# Altium schematic symbol library Connectors - Terminal Blocks - Headers Plugs and Sockets.SchLib: 18 symbols
Pins are listed as number, name and electrical type; pins without a type are passive.

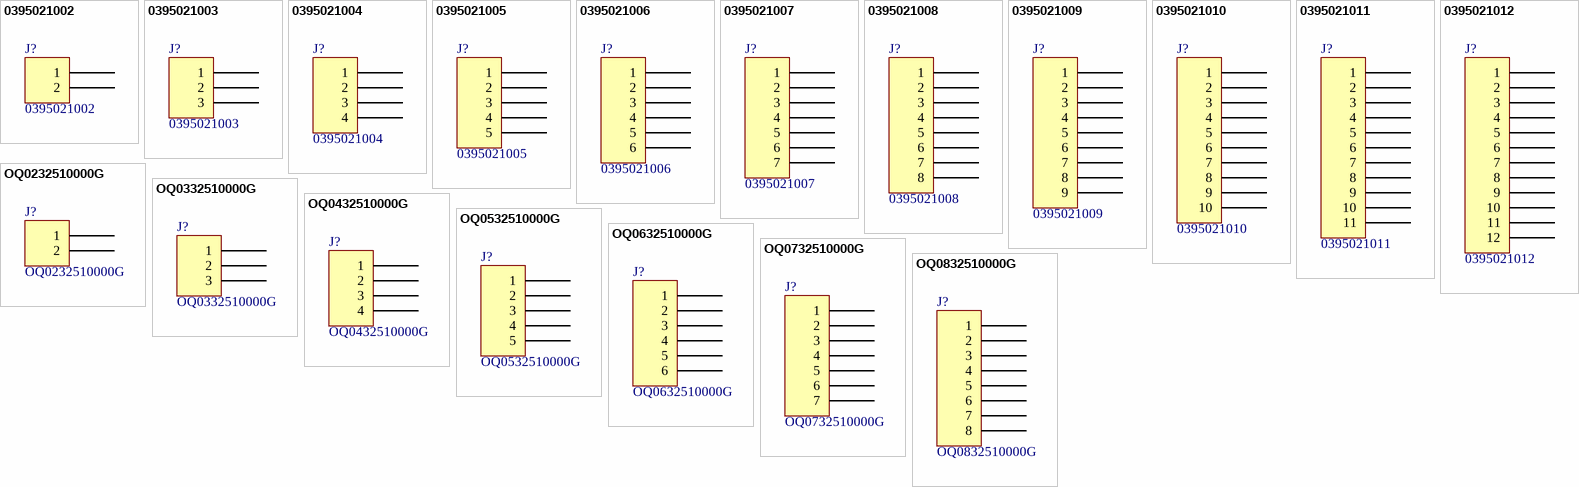
[diagram p0: symbols 0395021002 to OQ0832510000G]

## 0395021002
designator J?
TERM BLOCK HDR 2POS 90DEG 3.5MM; Manufacturer: Molex; Current - UL: 8A; Header Orientation: 90°, Right Angle; Number of Levels: 1; Number of Positions: 2; Pitch: 0.138" (3.50mm); Voltage - UL: 300V; Part Number: 0395021002; Color: Black; ComponentLink1Description: Datasheet; ComponentLink1URL: https://www.molex.com/pdm_docs/sd/395021002_sd.pdf; ComponentLink2Description: DigiKey Link; ComponentLink2URL: http://digikey.com/product-detail/en/molex/0395021002/WM7770-ND/1280621; Contact Mating Finish: Tin; LastUpdated: 6/25/2020 3:44:05 PM; Lifecycle Status: Active; Minimum Order: 1; Mounting Type: Through Hole; Operating Temperature: -40°C ~ 105°C; Packaging: Tray; Part Status: Active; Positions Per Level: 2; Price: 0.58; Series: Eurostyle ESE 39502; Supplier 1: DigiKey; Supplier Part Number 1: WM7770-ND; Termination Style: Solder; Type: Header, Male Pins, Shrouded (4 Side)
footprint MOLEX 395021002
pins: 1, 2

## 0395021003
designator J?
TERM BLOCK HDR 3POS 90DEG 3.5MM; Manufacturer: Molex; Current - UL: 8A; Header Orientation: 90°, Right Angle; Number of Levels: 1; Number of Positions: 3; Pitch: 0.138" (3.50mm); Voltage - UL: 300V; Part Number: 0395021003; Color: Black; ComponentLink1Description: Datasheet; ComponentLink1URL: https://www.molex.com/pdm_docs/sd/395021002_sd.pdf; ComponentLink2Description: DigiKey Link; ComponentLink2URL: http://digikey.com/product-detail/en/molex/0395021003/WM7771-ND/1280622; Contact Mating Finish: Tin; LastUpdated: 6/25/2020 3:44:18 PM; Lifecycle Status: Active; Minimum Order: 1; Mounting Type: Through Hole; Operating Temperature: -40°C ~ 105°C; Packaging: Tray; Part Status: Active; Positions Per Level: 3; Price: 0.78; Series: Eurostyle ESE 39502; Supplier 1: DigiKey; Supplier Part Number 1: WM7771-ND; Termination Style: Solder; Type: Header, Male Pins, Shrouded (4 Side)
footprint MOLEX 395021003
pins: 1, 2, 3

## 0395021004
designator J?
TERM BLOCK HDR 4POS 90DEG 3.5MM; Manufacturer: Molex; Current - UL: 8A; Header Orientation: 90°, Right Angle; Number of Levels: 1; Number of Positions: 4; Pitch: 0.138" (3.50mm); Voltage - UL: 300V; Part Number: 0395021004; Color: Black; ComponentLink1Description: Datasheet; ComponentLink1URL: https://www.molex.com/pdm_docs/sd/395021002_sd.pdf; ComponentLink2Description: DigiKey Link; ComponentLink2URL: http://digikey.com/product-detail/en/molex/0395021004/WM7772-ND/1280623; Contact Mating Finish: Tin; LastUpdated: 6/25/2020 3:44:36 PM; Lifecycle Status: Active; Minimum Order: 1; Mounting Type: Through Hole; Operating Temperature: -40°C ~ 105°C; Packaging: Tray; Part Status: Active; Positions Per Level: 4; Price: 1.07; Series: Eurostyle ESE 39502; Supplier 1: DigiKey; Supplier Part Number 1: WM7772-ND; Termination Style: Solder; Type: Header, Male Pins, Shrouded (4 Side)
footprint MOLEX 395021004
pins: 1, 2, 3, 4

## 0395021005
designator J?
TERM BLOCK HDR 5POS 90DEG 3.5MM; Manufacturer: Molex; Current - UL: 8A; Header Orientation: 90°, Right Angle; Number of Levels: 1; Number of Positions: 5; Pitch: 0.138" (3.50mm); Voltage - UL: 300V; Part Number: 0395021005; Color: Black; ComponentLink1Description: Datasheet; ComponentLink1URL: https://www.molex.com/pdm_docs/sd/395021002_sd.pdf; ComponentLink2Description: DigiKey Link; ComponentLink2URL: http://digikey.com/product-detail/en/molex/0395021005/WM7773-ND/1280624; Contact Mating Finish: Tin; LastUpdated: 6/25/2020 3:45:30 PM; Lifecycle Status: Active; Minimum Order: 1; Mounting Type: Through Hole; Operating Temperature: -40°C ~ 105°C; Packaging: Bulk; Part Status: Active; Positions Per Level: 5; Price: 1.33; Series: Eurostyle ESE 39502; Supplier 1: DigiKey; Supplier Part Number 1: WM7773-ND; Termination Style: Solder; Type: Header, Male Pins, Shrouded (4 Side)
footprint MOLEX 395021005
pins: 1, 2, 3, 4, 5

## 0395021006
designator J?
TERM BLOCK HDR 6POS 90DEG 3.5MM; Manufacturer: Molex; Current - UL: 8A; Header Orientation: 90°, Right Angle; Number of Levels: 1; Number of Positions: 6; Pitch: 0.138" (3.50mm); Voltage - UL: 300V; Part Number: 0395021006; Color: Black; ComponentLink1Description: Datasheet; ComponentLink1URL: https://www.molex.com/pdm_docs/sd/395021002_sd.pdf; ComponentLink2Description: DigiKey Link; ComponentLink2URL: http://digikey.com/product-detail/en/molex/0395021006/WM7774-ND/1280625; Contact Mating Finish: Tin; LastUpdated: 6/25/2020 3:45:17 PM; Lifecycle Status: Active; Minimum Order: 1; Mounting Type: Through Hole; Operating Temperature: -40°C ~ 105°C; Packaging: Bulk; Part Status: Active; Positions Per Level: 6; Price: 1.40; Series: Eurostyle ESE 39502; Supplier 1: DigiKey; Supplier Part Number 1: WM7774-ND; Termination Style: Solder; Type: Header, Male Pins, Shrouded (4 Side)
footprint MOLEX 395021006
pins: 1, 2, 3, 4, 5, 6

## 0395021007
designator J?
TERM BLOCK HDR 7POS 90DEG 3.5MM; Manufacturer: Molex; Current - UL: 8A; Header Orientation: 90°, Right Angle; Number of Levels: 1; Number of Positions: 7; Pitch: 0.138" (3.50mm); Voltage - UL: 300V; Part Number: 0395021007; Color: Black; ComponentLink1Description: Datasheet; ComponentLink1URL: https://www.molex.com/pdm_docs/sd/395021002_sd.pdf; ComponentLink2Description: DigiKey Link; ComponentLink2URL: http://digikey.com/product-detail/en/molex/0395021007/WM7775-ND/1280626; Contact Mating Finish: Tin; LastUpdated: 6/25/2020 3:45:58 PM; Lifecycle Status: Active; Minimum Order: 1; Mounting Type: Through Hole; Operating Temperature: -40°C ~ 105°C; Packaging: Bulk; Part Status: Active; Positions Per Level: 7; Price: 1.63; Series: Eurostyle ESE 39502; Supplier 1: DigiKey; Supplier Part Number 1: WM7775-ND; Termination Style: Solder; Type: Header, Male Pins, Shrouded (4 Side)
footprint MOLEX 395021007
pins: 1, 2, 3, 4, 5, 6, 7

## 0395021008
designator J?
TERM BLOCK HDR 8POS 90DEG 3.5MM; Manufacturer: Molex; Current - UL: 8A; Header Orientation: 90°, Right Angle; Number of Levels: 1; Number of Positions: 8; Pitch: 0.138" (3.50mm); Voltage - UL: 300V; Part Number: 0395021008; Color: Black; ComponentLink1Description: Datasheet; ComponentLink1URL: https://www.molex.com/pdm_docs/sd/395021002_sd.pdf; ComponentLink2Description: DigiKey Link; ComponentLink2URL: http://digikey.com/product-detail/en/molex/0395021008/WM7776-ND/1280627; Contact Mating Finish: Tin; LastUpdated: 6/25/2020 3:46:31 PM; Lifecycle Status: Active; Minimum Order: 1; Mounting Type: Through Hole; Operating Temperature: -40°C ~ 105°C; Packaging: Bulk; Part Status: Active; Positions Per Level: 8; Price: 1.97; Series: Eurostyle ESE 39502; Supplier 1: DigiKey; Supplier Part Number 1: WM7776-ND; Termination Style: Solder; Type: Header, Male Pins, Shrouded (4 Side)
footprint MOLEX 395021008
pins: 1, 2, 3, 4, 5, 6, 7, 8

## 0395021009
designator J?
TERM BLOCK HDR 9POS 90DEG 3.5MM; Manufacturer: Molex; Current - UL: 8A; Header Orientation: 90°, Right Angle; Number of Levels: 1; Number of Positions: 9; Pitch: 0.138" (3.50mm); Voltage - UL: 300V; Part Number: 0395021009; Color: Black; ComponentLink1Description: Datasheet; ComponentLink1URL: https://www.molex.com/pdm_docs/sd/395021002_sd.pdf; ComponentLink2Description: DigiKey Link; ComponentLink2URL: http://digikey.com/product-detail/en/molex/0395021009/WM7777-ND/1280628; Contact Mating Finish: Tin; LastUpdated: 6/25/2020 3:46:55 PM; Lifecycle Status: Active; Minimum Order: 1; Mounting Type: Through Hole; Operating Temperature: -40°C ~ 105°C; Packaging: Bulk; Part Status: Active; Positions Per Level: 9; Price: 2.21; Series: Eurostyle ESE 39502; Supplier 1: DigiKey; Supplier Part Number 1: WM7777-ND; Termination Style: Solder; Type: Header, Male Pins, Shrouded (4 Side)
footprint MOLEX 395021009
pins: 1, 2, 3, 4, 5, 6, 7, 8, 9

## 0395021010
designator J?
TERM BLOCK HDR 10POS 90DEG 3.5MM; Manufacturer: Molex; Current - UL: 8A; Header Orientation: 90°, Right Angle; Number of Levels: 1; Number of Positions: 10; Pitch: 0.138" (3.50mm); Voltage - UL: 300V; Part Number: 0395021010; Color: Black; ComponentLink1Description: Datasheet; ComponentLink1URL: https://www.molex.com/pdm_docs/sd/395021002_sd.pdf; ComponentLink2Description: DigiKey Link; ComponentLink2URL: http://digikey.com/product-detail/en/molex/0395021010/WM7778-ND/1280629; Contact Mating Finish: Tin; LastUpdated: 6/25/2020 3:47:12 PM; Lifecycle Status: Active; Minimum Order: 1; Mounting Type: Through Hole; Operating Temperature: -40°C ~ 105°C; Packaging: Bulk; Part Status: Active; Positions Per Level: 10; Price: 2.46; Series: Eurostyle ESE 39502; Supplier 1: DigiKey; Supplier Part Number 1: WM7778-ND; Termination Style: Solder; Type: Header, Male Pins, Shrouded (4 Side)
footprint MOLEX 395021010
pins: 1, 2, 3, 4, 5, 6, 7, 8, 9, 10

## 0395021011
designator J?
TERM BLOCK HDR 11POS 90DEG 3.5MM; Manufacturer: Molex; Current - UL: 8A; Header Orientation: 90°, Right Angle; Number of Levels: 1; Number of Positions: 11; Pitch: 0.138" (3.50mm); Voltage - UL: 300V; Part Number: 0395021011; Color: Black; ComponentLink1Description: Datasheet; ComponentLink1URL: https://www.molex.com/pdm_docs/sd/395021002_sd.pdf; ComponentLink2Description: DigiKey Link; ComponentLink2URL: http://digikey.com/product-detail/en/molex/0395021011/23-0395021011-ND/1280630; Contact Mating Finish: Tin; LastUpdated: 6/25/2020 3:47:33 PM; Lifecycle Status: Active; Minimum Order: 1; Mounting Type: Through Hole; Operating Temperature: -40°C ~ 105°C; Packaging: Bulk; Part Status: Active; Positions Per Level: 11; Price: 3.00; Series: Eurostyle ESE 39502; Supplier 1: DigiKey; Supplier Part Number 1: 23-0395021011-ND; Termination Style: Solder; Type: Header, Male Pins, Shrouded (4 Side)
footprint MOLEX 395021011
pins: 1, 2, 3, 4, 5, 6, 7, 8, 9, 10, 11

## 0395021012
designator J?
TERM BLOCK HDR 12POS 90DEG 3.5MM; Manufacturer: Molex; Current - UL: 8A; Header Orientation: 90°, Right Angle; Number of Levels: 1; Number of Positions: 12; Pitch: 0.138" (3.50mm); Voltage - UL: 300V; Part Number: 0395021012; Color: Black; ComponentLink1Description: Datasheet; ComponentLink1URL: https://www.molex.com/pdm_docs/sd/395021002_sd.pdf; ComponentLink2Description: DigiKey Link; ComponentLink2URL: http://digikey.com/product-detail/en/molex/0395021012/WM7780-ND/1280631; Contact Mating Finish: Tin; LastUpdated: 6/25/2020 3:47:47 PM; Lifecycle Status: Active; Minimum Order: 1; Mounting Type: Through Hole; Operating Temperature: -40°C ~ 105°C; Packaging: Bulk; Part Status: Active; Positions Per Level: 12; Price: 2.75; Series: Eurostyle ESE 39502; Supplier 1: DigiKey; Supplier Part Number 1: WM7780-ND; Termination Style: Solder; Type: Header, Male Pins, Shrouded (4 Side)
footprint MOLEX 395021012
pins: 1, 2, 3, 4, 5, 6, 7, 8, 9, 10, 11, 12

## OQ0232510000G
designator J?
TERM BLOCK HDR 2POS 90DEG 3.81MM; Manufacturer: Amphenol Anytek; Current - UL: 10A; Header Orientation: 90°, Right Angle; Number of Levels: 1; Number of Positions: 2; Pitch: 0.150" (3.81mm); Voltage - UL: 300V; Part Number: OQ0232510000G; Color: Green; ComponentLink1Description: Datasheet; ComponentLink1URL: http://portal.fciconnect.com/Comergent//fci/drawing/oqxx32x100j0g.pdf; ComponentLink2Description: DigiKey Link; ComponentLink2URL: //digikey.com/product-detail/en/amphenol-anytek/OQ0232510000G/609-3819-ND/2261255; Contact Mating Finish: Tin; LastUpdated: 12/16/2019 7:14:30 PM; Lifecycle Status: 0; Minimum Order: 1; Mounting Type: Through Hole; Operating Temperature: -40°C ~ 115°C; Packaging: Bulk; Part Status: Active; Positions Per Level: 2; Price: 0.49; Series: 06-381; Supplier 1: DigiKey; Supplier Part Number 1: 609-3819-ND; Termination Style: Solder; Type: Header, Male Pins, Shrouded (4 Side)
footprint FCI 06-381-2PIN
pins: 1, 2

## OQ0332510000G
designator J?
TERM BLOCK HDR 3POS 90DEG 3.81MM; Manufacturer: Amphenol Anytek; Current - UL: 10A; Header Orientation: 90°, Right Angle; Number of Levels: 1; Number of Positions: 3; Pitch: 0.150" (3.81mm); Voltage - UL: 300V; Part Number: OQ0332510000G; Color: Green; ComponentLink1Description: Datasheet; ComponentLink1URL: http://portal.fciconnect.com/Comergent//fci/drawing/oqxx32x100j0g.pdf; ComponentLink2Description: DigiKey Link; ComponentLink2URL: //digikey.com/product-detail/en/amphenol-anytek/OQ0332510000G/609-3820-ND/2261261; Contact Mating Finish: Tin; LastUpdated: 12/16/2019 7:14:46 PM; Lifecycle Status: 0; Minimum Order: 1; Mounting Type: Through Hole; Operating Temperature: -40°C ~ 115°C; Packaging: Bulk; Part Status: Active; Positions Per Level: 3; Price: 0.53; Series: 06-381; Supplier 1: DigiKey; Supplier Part Number 1: 609-3820-ND; Termination Style: Solder; Type: Header, Male Pins, Shrouded (4 Side)
footprint FCI 06-381-3PIN
pins: 1, 2, 3

## OQ0432510000G
designator J?
TERM BLOCK HDR 4POS 90DEG 3.81MM; Manufacturer: Amphenol Anytek; Current - UL: 10A; Header Orientation: 90°, Right Angle; Number of Levels: 1; Number of Positions: 4; Pitch: 0.150" (3.81mm); Voltage - UL: 300V; Part Number: OQ0432510000G; Color: Green; ComponentLink1Description: Datasheet; ComponentLink1URL: http://portal.fciconnect.com/Comergent//fci/drawing/oqxx32x100j0g.pdf; ComponentLink2Description: DigiKey Link; ComponentLink2URL: //digikey.com/product-detail/en/amphenol-anytek/OQ0432510000G/609-3821-ND/2261267; Contact Mating Finish: Tin; LastUpdated: 12/16/2019 7:15:03 PM; Lifecycle Status: 0; Minimum Order: 1; Mounting Type: Through Hole; Operating Temperature: -40°C ~ 115°C; Packaging: Bulk; Part Status: Active; Positions Per Level: 4; Price: 0.71; Series: 06-381; Supplier 1: DigiKey; Supplier Part Number 1: 609-3821-ND; Termination Style: Solder; Type: Header, Male Pins, Shrouded (4 Side)
footprint FCI 06-381-4PIN
pins: 1, 2, 3, 4

## OQ0532510000G
designator J?
TERM BLOCK HDR 5POS 90DEG 3.81MM; Manufacturer: Amphenol Anytek; Current - UL: 10A; Header Orientation: 90°, Right Angle; Number of Levels: 1; Number of Positions: 5; Pitch: 0.150" (3.81mm); Voltage - UL: 300V; Part Number: OQ0532510000G; Color: Green; ComponentLink1Description: Datasheet; ComponentLink1URL: http://portal.fciconnect.com/Comergent//fci/drawing/oqxx32x100j0g.pdf; ComponentLink2Description: DigiKey Link; ComponentLink2URL: //digikey.com/product-detail/en/amphenol-anytek/OQ0532510000G/609-3822-ND/2261276; Contact Mating Finish: Tin; LastUpdated: 12/16/2019 7:15:59 PM; Lifecycle Status: 0; Minimum Order: 1; Mounting Type: Through Hole; Operating Temperature: -40°C ~ 115°C; Packaging: Bulk; Part Status: Active; Positions Per Level: 5; Price: 0.67; Series: 06-381; Supplier 1: DigiKey; Supplier Part Number 1: 609-3822-ND; Termination Style: Solder; Type: Header, Male Pins, Shrouded (4 Side)
footprint FCI 06-381-5PIN
pins: 1, 2, 3, 4, 5

## OQ0632510000G
designator J?
TERM BLOCK HDR 6POS 90DEG 3.81MM; Manufacturer: Amphenol Anytek; Current - UL: 10A; Header Orientation: 90°, Right Angle; Number of Levels: 1; Number of Positions: 6; Pitch: 0.150" (3.81mm); Voltage - UL: 300V; Part Number: OQ0632510000G; Color: Green; ComponentLink1Description: Datasheet; ComponentLink1URL: http://portal.fciconnect.com/Comergent//fci/drawing/oqxx32x100j0g.pdf; ComponentLink2Description: DigiKey Link; ComponentLink2URL: //digikey.com/product-detail/en/amphenol-anytek/OQ0632510000G/609-3823-ND/2261282; Contact Mating Finish: Tin; LastUpdated: 12/16/2019 7:16:11 PM; Lifecycle Status: 0; Minimum Order: 1; Mounting Type: Through Hole; Operating Temperature: -40°C ~ 115°C; Packaging: Bulk; Part Status: Active; Positions Per Level: 6; Price: 0.80; Series: 06-381; Supplier 1: DigiKey; Supplier Part Number 1: 609-3823-ND; Termination Style: Solder; Type: Header, Male Pins, Shrouded (4 Side)
footprint FCI 06-381-6PIN
pins: 1, 2, 3, 4, 5, 6

## OQ0732510000G
designator J?
TERM BLOCK HDR 7POS 90DEG 3.81MM; Manufacturer: Amphenol Anytek; Current - UL: 10A; Header Orientation: 90°, Right Angle; Number of Levels: 1; Number of Positions: 7; Pitch: 0.150" (3.81mm); Voltage - UL: 300V; Part Number: OQ0732510000G; Color: Green; ComponentLink1Description: Datasheet; ComponentLink1URL: http://www.anytek.com.tw/UserUpFiles/20120526/jMKyryrC5T7A.pdf; ComponentLink2Description: DigiKey Link; ComponentLink2URL: //digikey.com/product-detail/en/amphenol-anytek/OQ0732510000G/609-3824-ND/2261290; Contact Mating Finish: Tin; LastUpdated: 12/16/2019 7:16:31 PM; Lifecycle Status: 0; Minimum Order: 1; Mounting Type: Through Hole; Operating Temperature: -40°C ~ 115°C; Packaging: Bulk; Part Status: Active; Positions Per Level: 7; Price: 0.93; Series: 06-381; Supplier 1: DigiKey; Supplier Part Number 1: 609-3824-ND; Termination Style: Solder; Type: Header, Male Pins, Shrouded (4 Side)
footprint FCI 06-381-7PIN
pins: 1, 2, 3, 4, 5, 6, 7

## OQ0832510000G
designator J?
TERM BLOCK HDR 8POS 90DEG 3.81MM; Manufacturer: Amphenol Anytek; Current - UL: 10A; Header Orientation: 90°, Right Angle; Number of Levels: 1; Number of Positions: 8; Pitch: 0.150" (3.81mm); Voltage - UL: 300V; Part Number: OQ0832510000G; Color: Green; ComponentLink1Description: Datasheet; ComponentLink1URL: http://www.anytek.com.tw/UserUpFiles/20120526/jMKyryrC5T7A.pdf; ComponentLink2Description: DigiKey Link; ComponentLink2URL: //digikey.com/product-detail/en/amphenol-anytek/OQ0832510000G/609-3825-ND/2261303; Contact Mating Finish: Tin; LastUpdated: 12/16/2019 7:16:43 PM; Lifecycle Status: 0; Minimum Order: 1; Mounting Type: Through Hole; Operating Temperature: -40°C ~ 115°C; Packaging: Bulk; Part Status: Active; Positions Per Level: 8; Price: 1.06; Series: 06-381; Supplier 1: DigiKey; Supplier Part Number 1: 609-3825-ND; Termination Style: Solder; Type: Header, Male Pins, Shrouded (4 Side)
footprint FCI 06-381-8PIN
pins: 1, 2, 3, 4, 5, 6, 7, 8